# Altium footprint library FP-CVHD-950.PcbLib: 1 footprints
Each footprint in its own frame and in the unit in brackets; x right, y up, seen from the top. Pads: shape width x height; smd on the part's side, far side on the other; paste and mask are expansions set on the pad; w line width, h text height; cw(c..) or ccw(c..) is an arc to the next point about the centre after c.
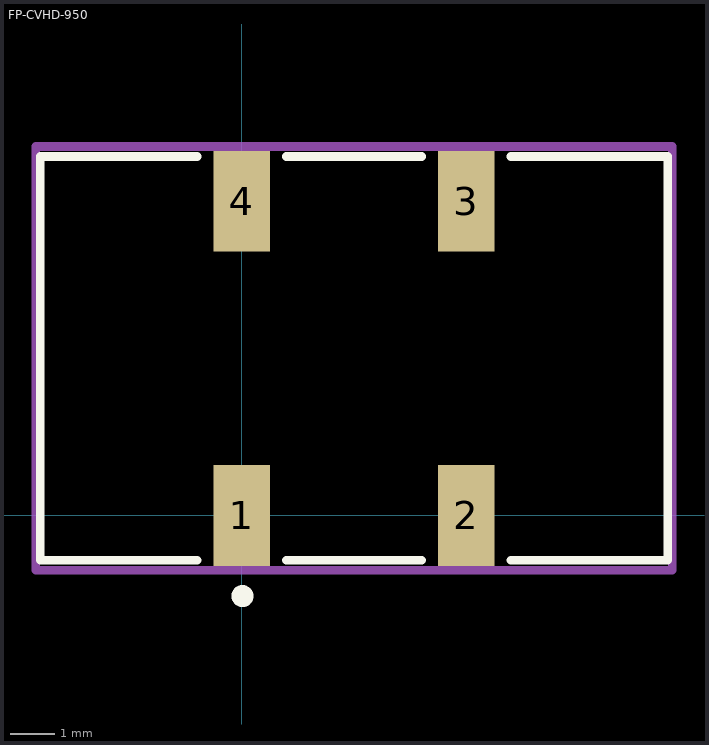
[diagram p0: the footprint, top view; thin cyan lines are the x and y axes]

## FP-CVHD-950 [mm]
pads (4):
  rect 1.27x2.28 smd paste+0 mask+0: 1(0,0) 2(5.08,0) 3(5.08,7.11) 4(0,7.11)
Top Overlay:
  circle w0.25: c0.015,-1.825 r0.125
  lines w0.2: -1.01,-1.015 -4.56,-1.015 -4.56,8.125 -1.01,8.125 ; 1.01,-1.015 4.07,-1.015 ; 1.01,8.125 4.07,8.125 ; 6.09,-1.015 9.64,-1.015 9.64,8.125 6.09,8.125
Top Courtyard:
  lines w0.2: -4.66,-1.24 9.74,-1.24 9.74,8.35 -4.66,8.35 -4.66,-1.24
Top Assembly:
  lines w0.2: -4.66,-1.24 9.74,-1.24 9.74,8.35 -4.66,8.35 -4.66,-1.24
3D body "Crys_Crystek_Corporation_CVHD-950-50_000_eec.STEP": height 5.3, standoff 0, extent -4.56,-1.015 9.64,8.125